# EAGLE library part IC-SOIC8-RED2861 (library RediSem_New)
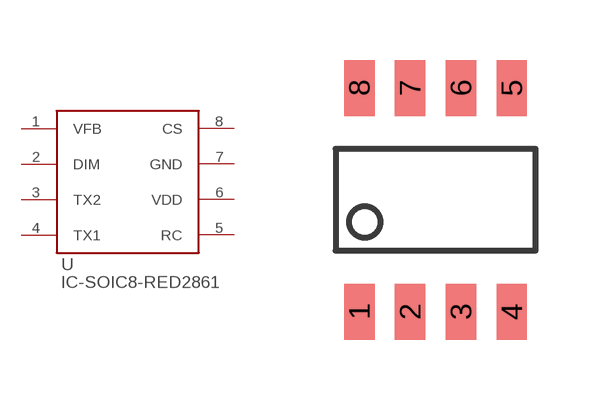
[diagram p1: symbol with the pads of SOIC8; footprint SOIC8]

Designator prefix -

## IC-SOIC8-RED2861  [SOIC8]
1  VFB
2  DIM
3  TX2
4  TX1
5  RC
6  VDD
7  GND
8  CS

## Footprint SOIC8 (pad centres in mm)
smd 0.76 x 1.4: 1 -1.905,-2.8; 2 -0.635,-2.8; 3 0.635,-2.8; 4 1.905,-2.8; 5 1.905,2.8; 6 0.635,2.8; 7 -0.635,2.8; 8 -1.905,2.8